# EAGLE library part ?M07B-SR (library con-jst)
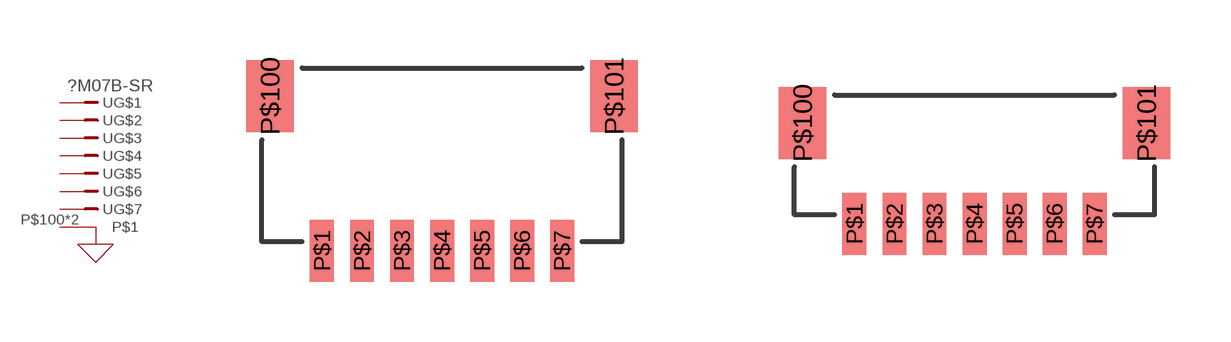
[diagram p26: symbol with the pads of SM07B-SR; footprints SM07B-SR, BM07B-SR]

Designator prefix -; gates G$1=PM-VN G$2=PM-N G$3=PM-N G$4=PM-N G$5=PM-N G$6=PM-N G$7=PM-N G$8=FRAME

## SM07B-SR  [SM07B-SR]
P$1  G$1:1  pas
P$2  G$2:1  pas
P$3  G$3:1  pas
P$4  G$4:1  pas
P$5  G$5:1  pas
P$6  G$6:1  pas
P$7  G$7:1  pas
P$100  G$8:P$1
P$101  G$8:P$1

## BM07B-SR  [BM07B-SR]
Pads as for SM07B-SR

## Footprint SM07B-SR (pad centres in mm)
smd 0.6 x 1.55: P$1 -3,-4.775; P$2 -2,-4.775; P$3 -1,-4.775; P$4 0,-4.775; P$5 1,-4.775; P$6 2,-4.775; P$7 3,-4.775
smd 1.2 x 1.8: P$100 -4.3,-0.9; P$101 4.3,-0.9

## Footprint BM07B-SR (pad centres in mm)
smd 0.6 x 1.55: P$1 -3,-3.425; P$2 -2,-3.425; P$3 -1,-3.425; P$4 0,-3.425; P$5 1,-3.425; P$6 2,-3.425; P$7 3,-3.425
smd 1.2 x 1.8: P$100 -4.3,-0.9; P$101 4.3,-0.9